# EAGLE library part TW_8CH (library TouchWheel)
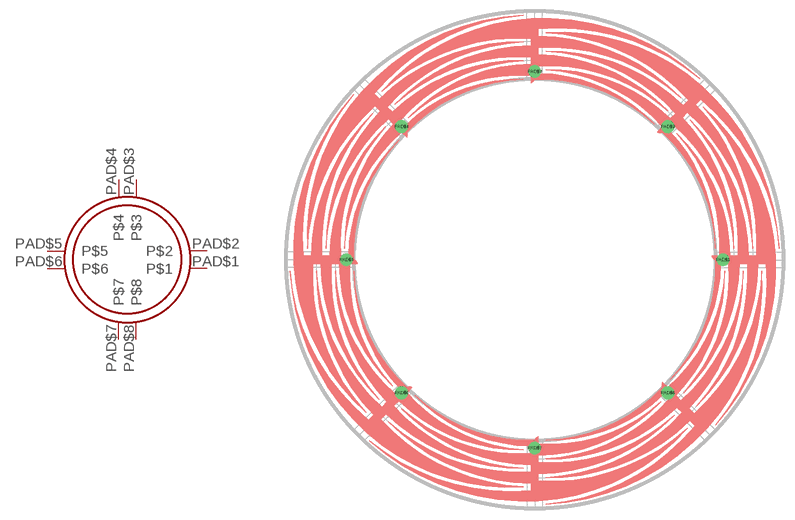
[diagram p0: symbol with the pads of C8_I24_O32; footprint C8_I24_O32]

Designator prefix -

## TW_8CH  [C8_I24_O32]
PAD$1  P$1
PAD$2  P$2
PAD$3  P$3
PAD$4  P$4
PAD$5  P$5
PAD$6  P$6
PAD$7  P$7
PAD$8  P$8

## Footprint C8_I24_O32 (pad centres in mm)
drill 0.8 pad 1.676: PAD$1 25,0; PAD$2 17.678,17.678; PAD$3 0,25; PAD$4 -17.678,17.678; PAD$5 -25,0; PAD$6 -17.678,-17.678; PAD$7 0,-25; PAD$8 17.678,-17.678